# EAGLE library part MAX1627 (library 000001)
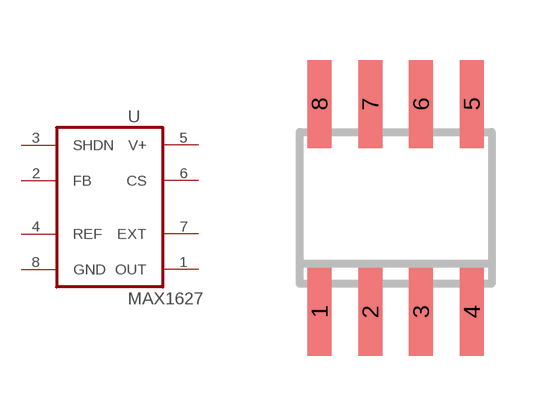
[diagram p52: symbol with the pads of SO08; footprint SO08]

Designator prefix -

## MAX1627  [SO08]
1  OUT  pwr
2  FB  in
3  SHDN  in
4  REF  in
5  V+  in
6  CS  pas
7  EXT  pas
8  GND  pwr

## Footprint SO08 (pad centres in mm)
Small Outline Package 8 NS Package M08A
smd 0.6 x 2.2: 1 -1.905,-2.6; 2 -0.635,-2.6; 3 0.635,-2.6; 4 1.905,-2.6; 5 1.905,2.6; 6 0.635,2.6; 7 -0.635,2.6; 8 -1.905,2.6